# Altium footprint library PcbLib1.PcbLib: 18 footprints (part 2 of 2)
Each footprint in its own frame and in the unit in brackets; x right, y up, seen from the top. Pads: shape width x height; smd on the part's side, far side on the other; paste and mask are expansions set on the pad; w line width, h text height; cw(c..) or ccw(c..) is an arc to the next point about the centre after c.
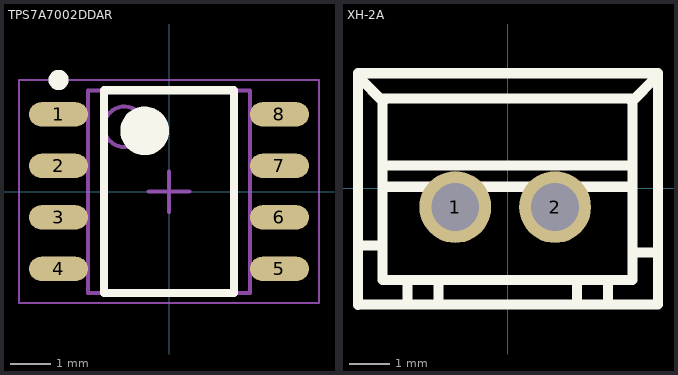
[diagram p1: the footprints below, top view; thin cyan lines are the x and y axes]

## TPS7A7002DDAR [mm] "SOIC, 8-Leads, Body 4,90x3,90mm, Pitch 1,27mm, Thermal Pad 0,00x0,00mm, IPC Medium Density"
height 1.7
pads (8):
  oval 1.45x0.6 smd: 1(-2.725,1.905) 2(-2.725,0.635) 3(-2.725,-0.635) 4(-2.725,-1.905) 5(2.725,-1.905) 6(2.725,-0.635) 7(2.725,0.635) 8(2.725,1.905)
Top Overlay:
  circle w0.6: c-0.6,1.5 r0.3
  circle w0.25: c-2.725,2.755 r0.125
  lines w0.2: -1.6,-2.5 1.6,-2.5 1.6,2.5 -1.6,2.5 -1.6,-2.5
Top Courtyard:
  lines w0.05: -3.7,-2.75 3.7,-2.75 3.7,2.75 -3.7,2.75 -3.7,-2.75
  lines w0.1: -0.5,0 0.5,0 ; 0,-0.5 0,0.5
Top Assembly:
  circle w0.1: c-1.1,1.6 r0.5
  lines w0.1: -2,-2.5 2,-2.5 2,2.5 -2,2.5 -2,-2.5
3D body "SOIC127P600X170_HS-9N.step": height 1.7, standoff 0, extent -3,-2.5 3,2.5

## XH-2A [mm]
pads (2):
  round 1.8 hole 1.199 paste-2539.97 mask+0.051: 1(-1.32,-0.474) 2(1.182,-0.474)
Top Overlay:
  lines w0.254: -3.758,-2.921 -3.758,2.879 3.742,2.879 ; -3.758,-1.439 -3.174,-1.439 ; -3.74,-2.912 3.76,-2.912 3.76,2.879 ; -3.733,2.854 -3.733,2.777 -3.123,2.168 ; -3.148,0.034 3.125,0.034 ; -3.148,0.568 3.125,0.568 ; -3.148,2.244 3.125,2.244 3.125,-2.303 -3.148,-2.303 -3.148,2.219 -3.123,2.219 ; -2.513,-2.887 -2.513,-2.303 ; -1.739,-2.899 -1.739,-2.315 ; 1.728,-2.887 1.728,-2.303 ; 2.503,-2.899 2.503,-2.315 ; 3.1,2.168 3.71,2.777 3.71,2.854 ; 3.151,-1.617 3.735,-1.617
Mechanical 15:
  lines w0.003: 0.318,0.106 0.319,0.106